# EAGLE library part HUN_FU2 (library Btz)
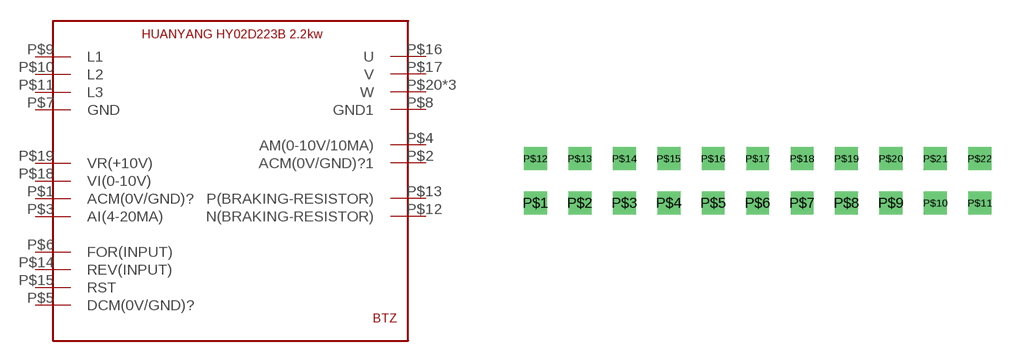
[diagram p4: symbol with the pads of HUN_FU2; footprint HUN_FU2]

Designator prefix -

## HUN_FU2  [HUN_FU2]
P$1  ACM(0V/GND)?
P$2  ACM(0V/GND)?1
P$3  AI(4-20MA)
P$4  AM(0-10V/10MA)  out
P$5  DCM(0V/GND)?
P$6  FOR(INPUT)
P$7  GND
P$8  GND1
P$9  L1
P$10  L2  out
P$11  L3  out
P$12  N(BRAKING-RESISTOR)
P$13  P(BRAKING-RESISTOR)
P$14  REV(INPUT)  in
P$15  RST  in
P$16  U  out
P$17  V  out
P$18  VI(0-10V)
P$19  VR(+10V)
P$20  W  out
P$21  W  out
P$22  W  out

## Footprint HUN_FU2 (pad centres in mm)
drill 0.8 square: P$1 0,0; P$2 2.54,0; P$3 5.08,0; P$4 7.62,0; P$5 10.16,0; P$6 12.7,0; P$7 15.24,0; P$8 17.78,0; P$9 20.32,0; P$10 22.86,0; P$11 25.4,0; P$12 0,2.54; P$13 2.54,2.54; P$14 5.08,2.54; P$15 7.62,2.54; P$16 10.16,2.54; P$17 12.7,2.54; P$18 15.24,2.54; P$19 17.78,2.54; P$20 20.32,2.54; P$21 22.86,2.54; P$22 25.4,2.54